# Altium footprint library Maxim Sensors.PcbLib: 239 footprints (part 4 of 15)
Each footprint in its own frame and in the unit in brackets; x right, y up, seen from the top. Pads: shape width x height; smd on the part's side, far side on the other; paste and mask are expansions set on the pad; w line width, h text height; cw(c..) or ccw(c..) is an arc to the next point about the centre after c.
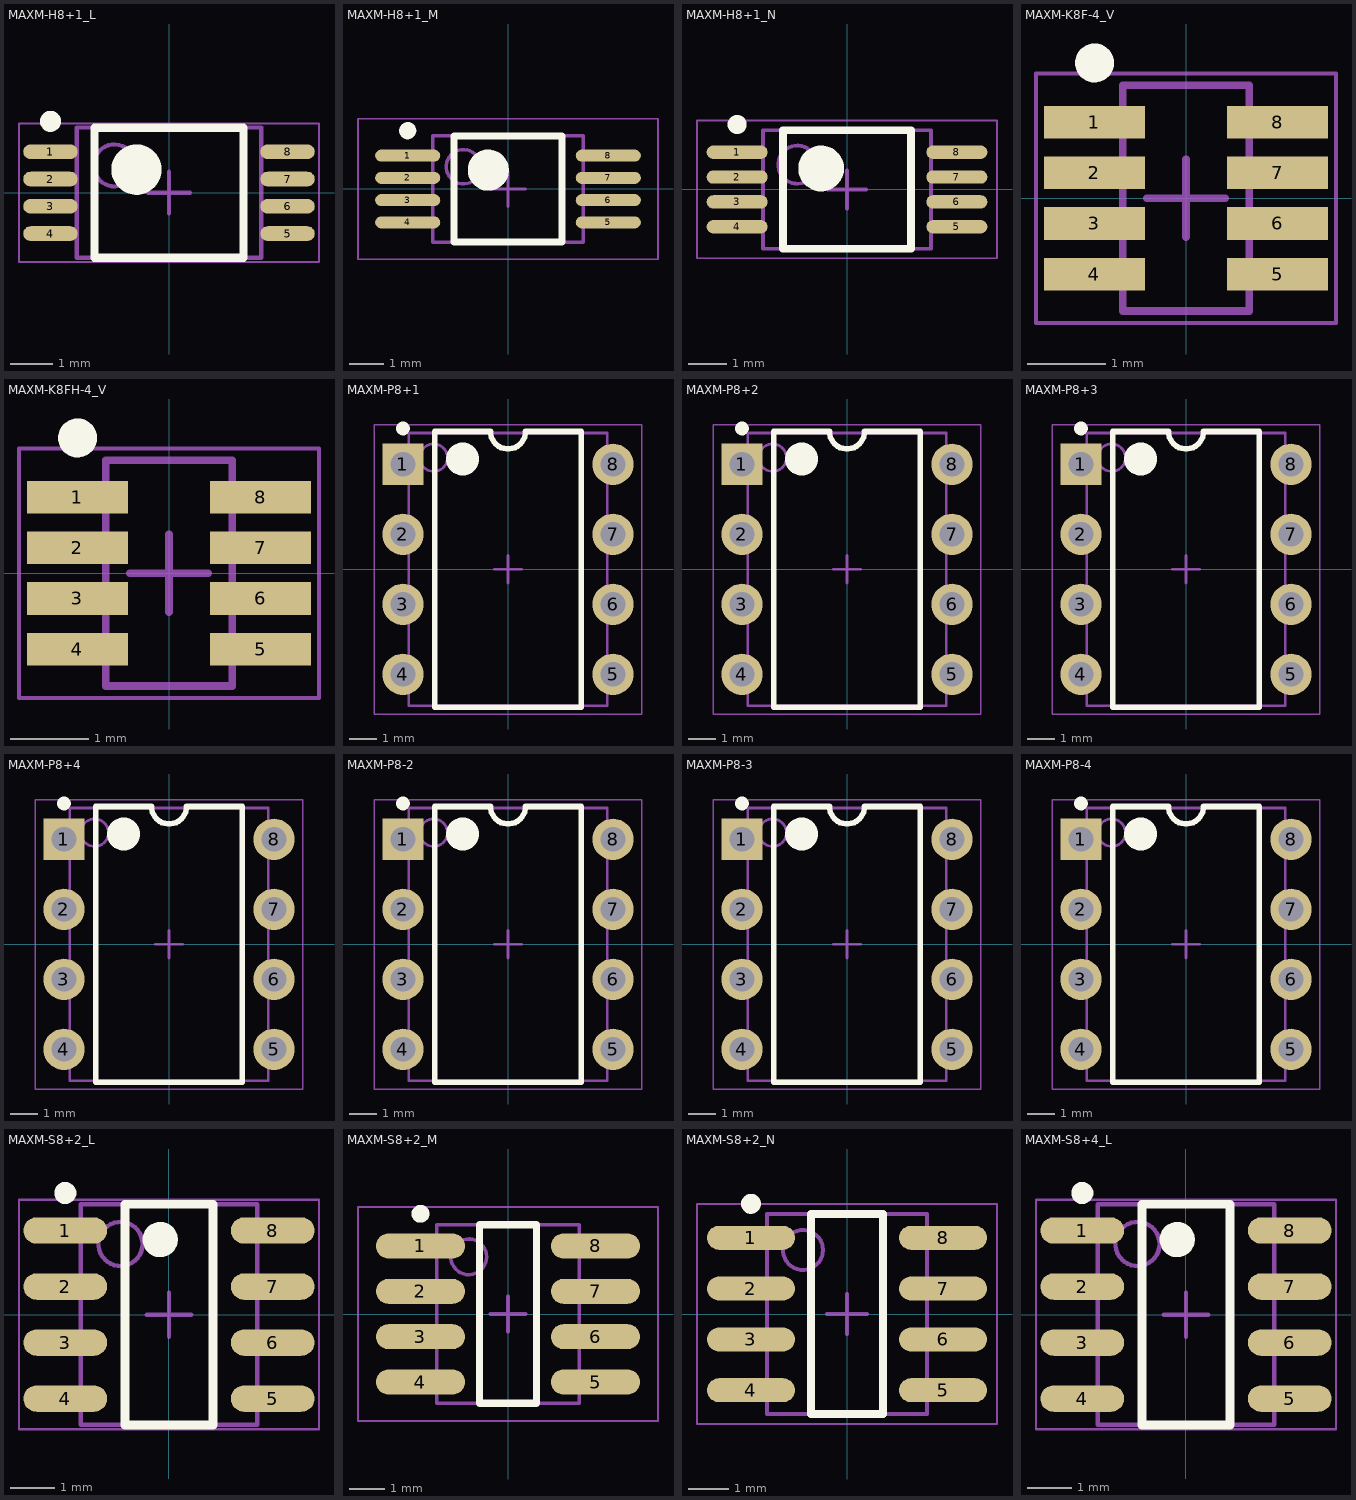
[diagram p3: the footprints below, top view; thin cyan lines are the x and y axes]

## MAXM-H8+1_L [mm] "SOP, 8-Leads, Body 4.4x3mm, Pitch 0.65mm, IPC High Density"
height 1.1
pads (8):
  oval 1.3x0.35 smd: 1(-2.825,0.975) 2(-2.825,0.325) 3(-2.825,-0.325) 4(-2.825,-0.975) 5(2.825,-0.975) 6(2.825,-0.325) 7(2.825,0.325) 8(2.825,0.975)
Top Overlay:
  circle w0.25: c-2.825,1.7 r0.125
  circle w0.6: c-0.775,0.55 r0.3
  lines w0.2: -1.775,-1.55 -1.775,1.55 1.775,1.55 1.775,-1.55 -1.775,-1.55
Mechanical 13:
  circle w0.1: c-1.3,0.65 r0.5
  lines w0.1: -2.2,-1.55 -2.2,1.55 2.2,1.55 2.2,-1.55 -2.2,-1.55
Mechanical 15:
  lines w0.05: -3.575,-1.65 -3.575,1.65 3.575,1.65 3.575,-1.65 -3.575,-1.65
  lines w0.1: -0.5,0 0.5,0 ; 0,-0.5 0,0.5
3D body: height 1.1, standoff 0.05, extent -2.2,-1.55 2.2,1.55

## MAXM-H8+1_M [mm] "SOP, 8-Leads, Body 4.4x3mm, Pitch 0.65mm, IPC Low Density"
height 1.1
pads (8):
  oval 1.9x0.35 smd: 1(-2.925,0.975) 2(-2.925,0.325) 3(-2.925,-0.325) 4(-2.925,-0.975) 5(2.925,-0.975) 6(2.925,-0.325) 7(2.925,0.325) 8(2.925,0.975)
Top Overlay:
  circle w0.25: c-2.925,1.7 r0.125
  circle w0.6: c-0.575,0.55 r0.3
  lines w0.2: -1.575,-1.55 -1.575,1.55 1.575,1.55 1.575,-1.55 -1.575,-1.55
Mechanical 13:
  circle w0.1: c-1.3,0.65 r0.5
  lines w0.1: -2.2,-1.55 -2.2,1.55 2.2,1.55 2.2,-1.55 -2.2,-1.55
Mechanical 15:
  lines w0.05: -4.375,-2.05 -4.375,2.05 4.375,2.05 4.375,-2.05 -4.375,-2.05
  lines w0.1: -0.5,0 0.5,0 ; 0,-0.5 0,0.5
3D body: height 1.1, standoff 0.05, extent -2.2,-1.55 2.2,1.55

## MAXM-H8+1_N [mm] "SOP, 8-Leads, Body 4.4x3mm, Pitch 0.65mm, IPC Medium Density"
height 1.1
pads (8):
  oval 1.6x0.35 smd: 1(-2.875,0.975) 2(-2.875,0.325) 3(-2.875,-0.325) 4(-2.875,-0.975) 5(2.875,-0.975) 6(2.875,-0.325) 7(2.875,0.325) 8(2.875,0.975)
Top Overlay:
  circle w0.25: c-2.875,1.7 r0.125
  circle w0.6: c-0.675,0.55 r0.3
  lines w0.2: -1.675,-1.55 -1.675,1.55 1.675,1.55 1.675,-1.55 -1.675,-1.55
Mechanical 13:
  circle w0.1: c-1.3,0.65 r0.5
  lines w0.1: -2.2,-1.55 -2.2,1.55 2.2,1.55 2.2,-1.55 -2.2,-1.55
Mechanical 15:
  lines w0.05: -3.925,-1.8 -3.925,1.8 3.925,1.8 3.925,-1.8 -3.925,-1.8
  lines w0.1: -0.5,0 0.5,0 ; 0,-0.5 0,0.5
3D body: height 1.1, standoff 0.05, extent -2.2,-1.55 2.2,1.55

## MAXM-K8F-4_V [mm] "SOT23, 8-Leads, Body 2.9x1.625mm, Pitch 0.65mm"
height 1.45
pads (8):
  rect 1.3x0.42 smd: 1(-1.175,0.975) 2(-1.175,0.325) 3(-1.175,-0.325) 4(-1.175,-0.975) 5(1.175,-0.975) 6(1.175,-0.325) 7(1.175,0.325) 8(1.175,0.975)
Top Overlay:
  circle w0.25: c-1.175,1.735 r0.125
Mechanical 13:
  lines w0.1: -0.812,-1.45 -0.812,1.45 0.813,1.45 0.813,-1.45 -0.812,-1.45
Mechanical 15:
  lines w0.05: -1.925,-1.6 -1.925,1.6 1.925,1.6 1.925,-1.6 -1.925,-1.6
  lines w0.1: -0.5,0 0.5,0 ; 0,-0.5 0,0.5
3D body: height 1.45, standoff 0, extent -0.812,-1.45 0.813,1.45

## MAXM-K8FH-4_V [mm] "SOT23, 8-Leads, Body 2.9x1.625mm, Pitch 0.65mm"
height 1.45
pads (8):
  rect 1.3x0.42 smd: 1(-1.175,0.975) 2(-1.175,0.325) 3(-1.175,-0.325) 4(-1.175,-0.975) 5(1.175,-0.975) 6(1.175,-0.325) 7(1.175,0.325) 8(1.175,0.975)
Top Overlay:
  circle w0.25: c-1.175,1.735 r0.125
Mechanical 13:
  lines w0.1: -0.812,-1.45 0.813,-1.45 0.813,1.45 -0.812,1.45 -0.812,-1.45
Mechanical 15:
  lines w0.05: -1.925,-1.6 1.925,-1.6 1.925,1.6 -1.925,1.6 -1.925,-1.6
  lines w0.1: -0.5,0 0.5,0 ; 0,-0.5 0,0.5
3D body: height 1.45, standoff 0, extent -0.812,-1.45 0.813,1.45

## MAXM-P8+1 [mm] "DIP, 8-Leads, Body 9.375x6.985mm, Pitch 2.54mm"
height 4.58
pads (8):
  rect 1.5x1.5 hole 0.9: 1(-3.81,3.81)
  round 1.5 hole 0.9: 2(-3.81,1.27) 3(-3.81,-1.27) 4(-3.81,-3.81) 5(3.81,-3.81) 6(3.81,-1.27) 7(3.81,1.27) 8(3.81,3.81)
Top Overlay:
  circle w0.25: c-3.81,5.11 r0.125
  circle w0.6: c-1.65,4 r0.3
  lines w0.2: -2.65,-5 -2.65,5 -0.635,5 ccw(c0,5) 0.635,5 2.65,5 2.65,-5 -2.65,-5
Mechanical 13:
  circle w0.1: c-2.7,4.05 r0.5
  lines w0.1: -3.6,-4.95 -3.6,4.95 3.6,4.95 3.6,-4.95 -3.6,-4.95
Mechanical 15:
  lines w0.05: -4.85,-5.25 -4.85,5.25 4.85,5.25 4.85,-5.25 -4.85,-5.25
  lines w0.1: -0.5,0 0.5,0 ; 0,-0.5 0,0.5
3D body: height 2.35, standoff 0, extent -3.945,3.31 -3.675,4.31
3D body: height 2.62, standoff 2.34, extent -3.945,3.31 -3.6,4.31
3D body: height 0, standoff -1.6, extent -3.945,3.45 -3.675,4.17
3D body: height 2.35, standoff 0, extent -3.945,0.77 -3.675,1.77
3D body: height 2.62, standoff 2.34, extent -3.945,0.77 -3.6,1.77
3D body: height 0, standoff -1.6, extent -3.945,0.91 -3.675,1.63
3D body: height 2.35, standoff 0, extent -3.945,-1.77 -3.675,-0.77
3D body: height 2.62, standoff 2.34, extent -3.945,-1.77 -3.6,-0.77
3D body: height 0, standoff -1.6, extent -3.945,-1.63 -3.675,-0.91
3D body: height 2.35, standoff 0, extent -3.945,-4.31 -3.675,-3.31
3D body: height 2.62, standoff 2.34, extent -3.945,-4.31 -3.6,-3.31
3D body: height 0, standoff -1.6, extent -3.945,-4.17 -3.675,-3.45
3D body: height 2.35, standoff 0, extent 3.675,-4.31 3.945,-3.31
3D body: height 2.62, standoff 2.34, extent 3.6,-4.31 3.945,-3.31
3D body: height 0, standoff -1.6, extent 3.675,-4.17 3.945,-3.45
3D body: height 2.35, standoff 0, extent 3.675,-1.77 3.945,-0.77
3D body: height 2.62, standoff 2.34, extent 3.6,-1.77 3.945,-0.77
3D body: height 0, standoff -1.6, extent 3.675,-1.63 3.945,-0.91
3D body: height 2.35, standoff 0, extent 3.675,0.77 3.945,1.77
3D body: height 2.62, standoff 2.34, extent 3.6,0.77 3.945,1.77
3D body: height 0, standoff -1.6, extent 3.675,0.91 3.945,1.63
3D body: height 2.35, standoff 0, extent 3.675,3.31 3.945,4.31
3D body: height 2.62, standoff 2.34, extent 3.6,3.31 3.945,4.31
3D body: height 0, standoff -1.6, extent 3.675,3.45 3.945,4.17
3D body: height 4.58, standoff 0.38, extent -3.6,-4.95 3.6,4.95

## MAXM-P8+2 [mm] "DIP, 8-Leads, Body 9.375x6.985mm, Pitch 2.54mm"
height 4.58
pads (8):
  rect 1.5x1.5 hole 0.9: 1(-3.81,3.81)
  round 1.5 hole 0.9: 2(-3.81,1.27) 3(-3.81,-1.27) 4(-3.81,-3.81) 5(3.81,-3.81) 6(3.81,-1.27) 7(3.81,1.27) 8(3.81,3.81)
Top Overlay:
  circle w0.25: c-3.81,5.11 r0.125
  circle w0.6: c-1.65,4 r0.3
  lines w0.2: -2.65,-5 -2.65,5 -0.635,5 ccw(c0,5) 0.635,5 2.65,5 2.65,-5 -2.65,-5
Mechanical 13:
  circle w0.1: c-2.7,4.05 r0.5
  lines w0.1: -3.6,-4.95 -3.6,4.95 3.6,4.95 3.6,-4.95 -3.6,-4.95
Mechanical 15:
  lines w0.05: -4.85,-5.25 -4.85,5.25 4.85,5.25 4.85,-5.25 -4.85,-5.25
  lines w0.1: -0.5,0 0.5,0 ; 0,-0.5 0,0.5
3D body: height 2.35, standoff 0, extent -3.945,3.31 -3.675,4.31
3D body: height 2.62, standoff 2.34, extent -3.945,3.31 -3.6,4.31
3D body: height 0, standoff -1.6, extent -3.945,3.45 -3.675,4.17
3D body: height 2.35, standoff 0, extent -3.945,0.77 -3.675,1.77
3D body: height 2.62, standoff 2.34, extent -3.945,0.77 -3.6,1.77
3D body: height 0, standoff -1.6, extent -3.945,0.91 -3.675,1.63
3D body: height 2.35, standoff 0, extent -3.945,-1.77 -3.675,-0.77
3D body: height 2.62, standoff 2.34, extent -3.945,-1.77 -3.6,-0.77
3D body: height 0, standoff -1.6, extent -3.945,-1.63 -3.675,-0.91
3D body: height 2.35, standoff 0, extent -3.945,-4.31 -3.675,-3.31
3D body: height 2.62, standoff 2.34, extent -3.945,-4.31 -3.6,-3.31
3D body: height 0, standoff -1.6, extent -3.945,-4.17 -3.675,-3.45
3D body: height 2.35, standoff 0, extent 3.675,-4.31 3.945,-3.31
3D body: height 2.62, standoff 2.34, extent 3.6,-4.31 3.945,-3.31
3D body: height 0, standoff -1.6, extent 3.675,-4.17 3.945,-3.45
3D body: height 2.35, standoff 0, extent 3.675,-1.77 3.945,-0.77
3D body: height 2.62, standoff 2.34, extent 3.6,-1.77 3.945,-0.77
3D body: height 0, standoff -1.6, extent 3.675,-1.63 3.945,-0.91
3D body: height 2.35, standoff 0, extent 3.675,0.77 3.945,1.77
3D body: height 2.62, standoff 2.34, extent 3.6,0.77 3.945,1.77
3D body: height 0, standoff -1.6, extent 3.675,0.91 3.945,1.63
3D body: height 2.35, standoff 0, extent 3.675,3.31 3.945,4.31
3D body: height 2.62, standoff 2.34, extent 3.6,3.31 3.945,4.31
3D body: height 0, standoff -1.6, extent 3.675,3.45 3.945,4.17
3D body: height 4.58, standoff 0.38, extent -3.6,-4.95 3.6,4.95

## MAXM-P8+3 [mm] "DIP, 8-Leads, Body 9.375x6.985mm, Pitch 2.54mm"
height 4.58
pads (8):
  rect 1.5x1.5 hole 0.9: 1(-3.81,3.81)
  round 1.5 hole 0.9: 2(-3.81,1.27) 3(-3.81,-1.27) 4(-3.81,-3.81) 5(3.81,-3.81) 6(3.81,-1.27) 7(3.81,1.27) 8(3.81,3.81)
Top Overlay:
  circle w0.25: c-3.81,5.11 r0.125
  circle w0.6: c-1.65,4 r0.3
  lines w0.2: -2.65,-5 -2.65,5 -0.635,5 ccw(c0,5) 0.635,5 2.65,5 2.65,-5 -2.65,-5
Mechanical 13:
  circle w0.1: c-2.7,4.05 r0.5
  lines w0.1: -3.6,-4.95 -3.6,4.95 3.6,4.95 3.6,-4.95 -3.6,-4.95
Mechanical 15:
  lines w0.05: -4.85,-5.25 -4.85,5.25 4.85,5.25 4.85,-5.25 -4.85,-5.25
  lines w0.1: -0.5,0 0.5,0 ; 0,-0.5 0,0.5
3D body: height 2.35, standoff 0, extent -3.945,3.31 -3.675,4.31
3D body: height 2.62, standoff 2.34, extent -3.945,3.31 -3.6,4.31
3D body: height 0, standoff -1.6, extent -3.945,3.45 -3.675,4.17
3D body: height 2.35, standoff 0, extent -3.945,0.77 -3.675,1.77
3D body: height 2.62, standoff 2.34, extent -3.945,0.77 -3.6,1.77
3D body: height 0, standoff -1.6, extent -3.945,0.91 -3.675,1.63
3D body: height 2.35, standoff 0, extent -3.945,-1.77 -3.675,-0.77
3D body: height 2.62, standoff 2.34, extent -3.945,-1.77 -3.6,-0.77
3D body: height 0, standoff -1.6, extent -3.945,-1.63 -3.675,-0.91
3D body: height 2.35, standoff 0, extent -3.945,-4.31 -3.675,-3.31
3D body: height 2.62, standoff 2.34, extent -3.945,-4.31 -3.6,-3.31
3D body: height 0, standoff -1.6, extent -3.945,-4.17 -3.675,-3.45
3D body: height 2.35, standoff 0, extent 3.675,-4.31 3.945,-3.31
3D body: height 2.62, standoff 2.34, extent 3.6,-4.31 3.945,-3.31
3D body: height 0, standoff -1.6, extent 3.675,-4.17 3.945,-3.45
3D body: height 2.35, standoff 0, extent 3.675,-1.77 3.945,-0.77
3D body: height 2.62, standoff 2.34, extent 3.6,-1.77 3.945,-0.77
3D body: height 0, standoff -1.6, extent 3.675,-1.63 3.945,-0.91
3D body: height 2.35, standoff 0, extent 3.675,0.77 3.945,1.77
3D body: height 2.62, standoff 2.34, extent 3.6,0.77 3.945,1.77
3D body: height 0, standoff -1.6, extent 3.675,0.91 3.945,1.63
3D body: height 2.35, standoff 0, extent 3.675,3.31 3.945,4.31
3D body: height 2.62, standoff 2.34, extent 3.6,3.31 3.945,4.31
3D body: height 0, standoff -1.6, extent 3.675,3.45 3.945,4.17
3D body: height 4.58, standoff 0.38, extent -3.6,-4.95 3.6,4.95

## MAXM-P8+4 [mm] "DIP, 8-Leads, Body 9.375x6.985mm, Pitch 2.54mm"
height 4.58
pads (8):
  rect 1.5x1.5 hole 0.9: 1(-3.81,3.81)
  round 1.5 hole 0.9: 2(-3.81,1.27) 3(-3.81,-1.27) 4(-3.81,-3.81) 5(3.81,-3.81) 6(3.81,-1.27) 7(3.81,1.27) 8(3.81,3.81)
Top Overlay:
  circle w0.25: c-3.81,5.11 r0.125
  circle w0.6: c-1.65,4 r0.3
  lines w0.2: -2.65,-5 -2.65,5 -0.635,5 ccw(c0,5) 0.635,5 2.65,5 2.65,-5 -2.65,-5
Mechanical 13:
  circle w0.1: c-2.7,4.05 r0.5
  lines w0.1: -3.6,-4.95 -3.6,4.95 3.6,4.95 3.6,-4.95 -3.6,-4.95
Mechanical 15:
  lines w0.05: -4.85,-5.25 -4.85,5.25 4.85,5.25 4.85,-5.25 -4.85,-5.25
  lines w0.1: -0.5,0 0.5,0 ; 0,-0.5 0,0.5
3D body: height 2.35, standoff 0, extent -3.945,3.31 -3.675,4.31
3D body: height 2.62, standoff 2.34, extent -3.945,3.31 -3.6,4.31
3D body: height 0, standoff -1.6, extent -3.945,3.45 -3.675,4.17
3D body: height 2.35, standoff 0, extent -3.945,0.77 -3.675,1.77
3D body: height 2.62, standoff 2.34, extent -3.945,0.77 -3.6,1.77
3D body: height 0, standoff -1.6, extent -3.945,0.91 -3.675,1.63
3D body: height 2.35, standoff 0, extent -3.945,-1.77 -3.675,-0.77
3D body: height 2.62, standoff 2.34, extent -3.945,-1.77 -3.6,-0.77
3D body: height 0, standoff -1.6, extent -3.945,-1.63 -3.675,-0.91
3D body: height 2.35, standoff 0, extent -3.945,-4.31 -3.675,-3.31
3D body: height 2.62, standoff 2.34, extent -3.945,-4.31 -3.6,-3.31
3D body: height 0, standoff -1.6, extent -3.945,-4.17 -3.675,-3.45
3D body: height 2.35, standoff 0, extent 3.675,-4.31 3.945,-3.31
3D body: height 2.62, standoff 2.34, extent 3.6,-4.31 3.945,-3.31
3D body: height 0, standoff -1.6, extent 3.675,-4.17 3.945,-3.45
3D body: height 2.35, standoff 0, extent 3.675,-1.77 3.945,-0.77
3D body: height 2.62, standoff 2.34, extent 3.6,-1.77 3.945,-0.77
3D body: height 0, standoff -1.6, extent 3.675,-1.63 3.945,-0.91
3D body: height 2.35, standoff 0, extent 3.675,0.77 3.945,1.77
3D body: height 2.62, standoff 2.34, extent 3.6,0.77 3.945,1.77
3D body: height 0, standoff -1.6, extent 3.675,0.91 3.945,1.63
3D body: height 2.35, standoff 0, extent 3.675,3.31 3.945,4.31
3D body: height 2.62, standoff 2.34, extent 3.6,3.31 3.945,4.31
3D body: height 0, standoff -1.6, extent 3.675,3.45 3.945,4.17
3D body: height 4.58, standoff 0.38, extent -3.6,-4.95 3.6,4.95

## MAXM-P8-2 [mm] "DIP, 8-Leads, Body 9.375x6.985mm, Pitch 2.54mm"
height 4.58
pads (8):
  rect 1.5x1.5 hole 0.9: 1(-3.81,3.81)
  round 1.5 hole 0.9: 2(-3.81,1.27) 3(-3.81,-1.27) 4(-3.81,-3.81) 5(3.81,-3.81) 6(3.81,-1.27) 7(3.81,1.27) 8(3.81,3.81)
Top Overlay:
  circle w0.25: c-3.81,5.11 r0.125
  circle w0.6: c-1.65,4 r0.3
  lines w0.2: -2.65,-5 -2.65,5 -0.635,5 ccw(c0,5) 0.635,5 2.65,5 2.65,-5 -2.65,-5
Mechanical 13:
  circle w0.1: c-2.7,4.05 r0.5
  lines w0.1: -3.6,-4.95 -3.6,4.95 3.6,4.95 3.6,-4.95 -3.6,-4.95
Mechanical 15:
  lines w0.05: -4.85,-5.25 -4.85,5.25 4.85,5.25 4.85,-5.25 -4.85,-5.25
  lines w0.1: -0.5,0 0.5,0 ; 0,-0.5 0,0.5
3D body: height 2.35, standoff 0, extent -3.945,3.31 -3.675,4.31
3D body: height 2.62, standoff 2.34, extent -3.945,3.31 -3.6,4.31
3D body: height 0, standoff -1.6, extent -3.945,3.45 -3.675,4.17
3D body: height 2.35, standoff 0, extent -3.945,0.77 -3.675,1.77
3D body: height 2.62, standoff 2.34, extent -3.945,0.77 -3.6,1.77
3D body: height 0, standoff -1.6, extent -3.945,0.91 -3.675,1.63
3D body: height 2.35, standoff 0, extent -3.945,-1.77 -3.675,-0.77
3D body: height 2.62, standoff 2.34, extent -3.945,-1.77 -3.6,-0.77
3D body: height 0, standoff -1.6, extent -3.945,-1.63 -3.675,-0.91
3D body: height 2.35, standoff 0, extent -3.945,-4.31 -3.675,-3.31
3D body: height 2.62, standoff 2.34, extent -3.945,-4.31 -3.6,-3.31
3D body: height 0, standoff -1.6, extent -3.945,-4.17 -3.675,-3.45
3D body: height 2.35, standoff 0, extent 3.675,-4.31 3.945,-3.31
3D body: height 2.62, standoff 2.34, extent 3.6,-4.31 3.945,-3.31
3D body: height 0, standoff -1.6, extent 3.675,-4.17 3.945,-3.45
3D body: height 2.35, standoff 0, extent 3.675,-1.77 3.945,-0.77
3D body: height 2.62, standoff 2.34, extent 3.6,-1.77 3.945,-0.77
3D body: height 0, standoff -1.6, extent 3.675,-1.63 3.945,-0.91
3D body: height 2.35, standoff 0, extent 3.675,0.77 3.945,1.77
3D body: height 2.62, standoff 2.34, extent 3.6,0.77 3.945,1.77
3D body: height 0, standoff -1.6, extent 3.675,0.91 3.945,1.63
3D body: height 2.35, standoff 0, extent 3.675,3.31 3.945,4.31
3D body: height 2.62, standoff 2.34, extent 3.6,3.31 3.945,4.31
3D body: height 0, standoff -1.6, extent 3.675,3.45 3.945,4.17
3D body: height 4.58, standoff 0.38, extent -3.6,-4.95 3.6,4.95

## MAXM-P8-3 [mm] "DIP, 8-Leads, Body 9.375x6.985mm, Pitch 2.54mm"
height 4.58
pads (8):
  rect 1.5x1.5 hole 0.9: 1(-3.81,3.81)
  round 1.5 hole 0.9: 2(-3.81,1.27) 3(-3.81,-1.27) 4(-3.81,-3.81) 5(3.81,-3.81) 6(3.81,-1.27) 7(3.81,1.27) 8(3.81,3.81)
Top Overlay:
  circle w0.6: c-1.65,4 r0.3
  circle w0.25: c-3.81,5.11 r0.125
  lines w0.2: -2.65,-5 2.65,-5 2.65,5 0.635,5 cw(c0,5) -0.635,5 -2.65,5 -2.65,-5
Mechanical 13:
  circle w0.1: c-2.7,4.05 r0.5
  lines w0.1: -3.6,-4.95 3.6,-4.95 3.6,4.95 -3.6,4.95 -3.6,-4.95
Mechanical 15:
  lines w0.05: -4.85,-5.25 4.85,-5.25 4.85,5.25 -4.85,5.25 -4.85,-5.25
  lines w0.1: -0.5,0 0.5,0 ; 0,-0.5 0,0.5
3D body: height 4.58, standoff 0.38, extent -3.6,-4.95 3.6,4.95
3D body: height 0, standoff -1.6, extent 3.675,3.45 3.945,4.17
3D body: height 2.62, standoff 2.34, extent 3.6,3.31 3.945,4.31
3D body: height 2.35, standoff 0, extent 3.675,3.31 3.945,4.31
3D body: height 0, standoff -1.6, extent 3.675,0.91 3.945,1.63
3D body: height 2.62, standoff 2.34, extent 3.6,0.77 3.945,1.77
3D body: height 2.35, standoff 0, extent 3.675,0.77 3.945,1.77
3D body: height 0, standoff -1.6, extent 3.675,-1.63 3.945,-0.91
3D body: height 2.62, standoff 2.34, extent 3.6,-1.77 3.945,-0.77
3D body: height 2.35, standoff 0, extent 3.675,-1.77 3.945,-0.77
3D body: height 0, standoff -1.6, extent 3.675,-4.17 3.945,-3.45
3D body: height 2.62, standoff 2.34, extent 3.6,-4.31 3.945,-3.31
3D body: height 2.35, standoff 0, extent 3.675,-4.31 3.945,-3.31
3D body: height 0, standoff -1.6, extent -3.945,-4.17 -3.675,-3.45
3D body: height 2.62, standoff 2.34, extent -3.945,-4.31 -3.6,-3.31
3D body: height 2.35, standoff 0, extent -3.945,-4.31 -3.675,-3.31
3D body: height 0, standoff -1.6, extent -3.945,-1.63 -3.675,-0.91
3D body: height 2.62, standoff 2.34, extent -3.945,-1.77 -3.6,-0.77
3D body: height 2.35, standoff 0, extent -3.945,-1.77 -3.675,-0.77
3D body: height 0, standoff -1.6, extent -3.945,0.91 -3.675,1.63
3D body: height 2.62, standoff 2.34, extent -3.945,0.77 -3.6,1.77
3D body: height 2.35, standoff 0, extent -3.945,0.77 -3.675,1.77
3D body: height 0, standoff -1.6, extent -3.945,3.45 -3.675,4.17
3D body: height 2.62, standoff 2.34, extent -3.945,3.31 -3.6,4.31
3D body: height 2.35, standoff 0, extent -3.945,3.31 -3.675,4.31

## MAXM-P8-4 [mm] "DIP, 8-Leads, Body 9.375x6.985mm, Pitch 2.54mm"
height 4.58
pads (8):
  rect 1.5x1.5 hole 0.9: 1(-3.81,3.81)
  round 1.5 hole 0.9: 2(-3.81,1.27) 3(-3.81,-1.27) 4(-3.81,-3.81) 5(3.81,-3.81) 6(3.81,-1.27) 7(3.81,1.27) 8(3.81,3.81)
Top Overlay:
  circle w0.25: c-3.81,5.11 r0.125
  circle w0.6: c-1.65,4 r0.3
  lines w0.2: -2.65,-5 -2.65,5 -0.635,5 ccw(c0,5) 0.635,5 2.65,5 2.65,-5 -2.65,-5
Mechanical 13:
  circle w0.1: c-2.7,4.05 r0.5
  lines w0.1: -3.6,-4.95 -3.6,4.95 3.6,4.95 3.6,-4.95 -3.6,-4.95
Mechanical 15:
  lines w0.05: -4.85,-5.25 -4.85,5.25 4.85,5.25 4.85,-5.25 -4.85,-5.25
  lines w0.1: -0.5,0 0.5,0 ; 0,-0.5 0,0.5
3D body: height 2.35, standoff 0, extent -3.945,3.31 -3.675,4.31
3D body: height 2.62, standoff 2.34, extent -3.945,3.31 -3.6,4.31
3D body: height 0, standoff -1.6, extent -3.945,3.45 -3.675,4.17
3D body: height 2.35, standoff 0, extent -3.945,0.77 -3.675,1.77
3D body: height 2.62, standoff 2.34, extent -3.945,0.77 -3.6,1.77
3D body: height 0, standoff -1.6, extent -3.945,0.91 -3.675,1.63
3D body: height 2.35, standoff 0, extent -3.945,-1.77 -3.675,-0.77
3D body: height 2.62, standoff 2.34, extent -3.945,-1.77 -3.6,-0.77
3D body: height 0, standoff -1.6, extent -3.945,-1.63 -3.675,-0.91
3D body: height 2.35, standoff 0, extent -3.945,-4.31 -3.675,-3.31
3D body: height 2.62, standoff 2.34, extent -3.945,-4.31 -3.6,-3.31
3D body: height 0, standoff -1.6, extent -3.945,-4.17 -3.675,-3.45
3D body: height 2.35, standoff 0, extent 3.675,-4.31 3.945,-3.31
3D body: height 2.62, standoff 2.34, extent 3.6,-4.31 3.945,-3.31
3D body: height 0, standoff -1.6, extent 3.675,-4.17 3.945,-3.45
3D body: height 2.35, standoff 0, extent 3.675,-1.77 3.945,-0.77
3D body: height 2.62, standoff 2.34, extent 3.6,-1.77 3.945,-0.77
3D body: height 0, standoff -1.6, extent 3.675,-1.63 3.945,-0.91
3D body: height 2.35, standoff 0, extent 3.675,0.77 3.945,1.77
3D body: height 2.62, standoff 2.34, extent 3.6,0.77 3.945,1.77
3D body: height 0, standoff -1.6, extent 3.675,0.91 3.945,1.63
3D body: height 2.35, standoff 0, extent 3.675,3.31 3.945,4.31
3D body: height 2.62, standoff 2.34, extent 3.6,3.31 3.945,4.31
3D body: height 0, standoff -1.6, extent 3.675,3.45 3.945,4.17
3D body: height 4.58, standoff 0.38, extent -3.6,-4.95 3.6,4.95

## MAXM-S8+2_L [mm] "SOIC, 8-Leads, Body 4.90x3.90mm, Pitch 1.27mm, IPC High Density"
height 1.75
pads (8):
  oval 1.9x0.6 smd: 1(-2.35,1.905) 2(-2.35,0.635) 3(-2.35,-0.635) 4(-2.35,-1.905) 5(2.35,-1.905) 6(2.35,-0.635) 7(2.35,0.635) 8(2.35,1.905)
Top Overlay:
  circle w0.4: c-0.2,1.7 r0.2
  circle w0.25: c-2.35,2.755 r0.125
  lines w0.2: -1,-2.5 1,-2.5 1,2.5 -1,2.5 -1,-2.5
Mechanical 13:
  circle w0.1: c-1.1,1.6 r0.5
  lines w0.1: -2,-2.5 2,-2.5 2,2.5 -2,2.5 -2,-2.5
Mechanical 15:
  lines w0.05: -3.4,-2.6 3.4,-2.6 3.4,2.6 -3.4,2.6 -3.4,-2.6
  lines w0.1: -0.5,0 0.5,0 ; 0,-0.5 0,0.5
3D body: height 1.75, standoff 0.1, extent -2,-2.5 2,2.5

## MAXM-S8+2_M [mm] "SOIC, 8-Leads, Body 4.90x3.90mm, Pitch 1.27mm, IPC Low Density"
height 1.75
pads (8):
  oval 2.5x0.7 smd: 1(-2.45,1.905) 2(-2.45,0.635) 3(-2.45,-0.635) 4(-2.45,-1.905) 5(2.45,-1.905) 6(2.45,-0.635) 7(2.45,0.635) 8(2.45,1.905)
Top Overlay:
  circle w0.25: c-2.45,2.805 r0.125
  lines w0.2: -0.8,-2.5 0.8,-2.5 0.8,2.5 -0.8,2.5 -0.8,-2.5
Mechanical 13:
  circle w0.1: c-1.1,1.6 r0.5
  lines w0.1: -2,-2.5 2,-2.5 2,2.5 -2,2.5 -2,-2.5
Mechanical 15:
  lines w0.05: -4.2,-3 4.2,-3 4.2,3 -4.2,3 -4.2,-3
  lines w0.1: -0.5,0 0.5,0 ; 0,-0.5 0,0.5
3D body: height 1.75, standoff 0.1, extent -2,-2.5 2,2.5

## MAXM-S8+2_N [mm] "SOIC, 8-Leads, Body 4.90x3.90mm, Pitch 1.27mm, IPC Medium Density"
height 1.75
pads (8):
  oval 2.2x0.6 smd: 1(-2.4,1.905) 2(-2.4,0.635) 3(-2.4,-0.635) 4(-2.4,-1.905) 5(2.4,-1.905) 6(2.4,-0.635) 7(2.4,0.635) 8(2.4,1.905)
Top Overlay:
  circle w0.25: c-2.4,2.755 r0.125
  lines w0.2: -0.9,-2.5 0.9,-2.5 0.9,2.5 -0.9,2.5 -0.9,-2.5
Mechanical 13:
  circle w0.1: c-1.1,1.6 r0.5
  lines w0.1: -2,-2.5 2,-2.5 2,2.5 -2,2.5 -2,-2.5
Mechanical 15:
  lines w0.05: -3.75,-2.75 3.75,-2.75 3.75,2.75 -3.75,2.75 -3.75,-2.75
  lines w0.1: -0.5,0 0.5,0 ; 0,-0.5 0,0.5
3D body: height 1.75, standoff 0.1, extent -2,-2.5 2,2.5

## MAXM-S8+4_L [mm] "SOIC, 8-Leads, Body 4.9x3.9mm, Pitch 1.27mm, IPC High Density"
height 1.75
pads (8):
  oval 1.9x0.6 smd: 1(-2.35,1.905) 2(-2.35,0.635) 3(-2.35,-0.635) 4(-2.35,-1.905) 5(2.35,-1.905) 6(2.35,-0.635) 7(2.35,0.635) 8(2.35,1.905)
Top Overlay:
  circle w0.25: c-2.35,2.755 r0.125
  circle w0.4: c-0.2,1.7 r0.2
  lines w0.2: -1,-2.5 -1,2.5 1,2.5 1,-2.5 -1,-2.5
Mechanical 13:
  circle w0.1: c-1.1,1.6 r0.5
  lines w0.1: -2,-2.5 -2,2.5 2,2.5 2,-2.5 -2,-2.5
Mechanical 15:
  lines w0.05: -3.4,-2.6 -3.4,2.6 3.4,2.6 3.4,-2.6 -3.4,-2.6
  lines w0.1: -0.5,0 0.5,0 ; 0,-0.5 0,0.5
3D body: height 1.75, standoff 0.1, extent -2,-2.5 2,2.5